# Altium integrated library Analog Devices Data Converters Analog-to-Digital Converters.IntLib: 2404 symbols (part 303 of 346)
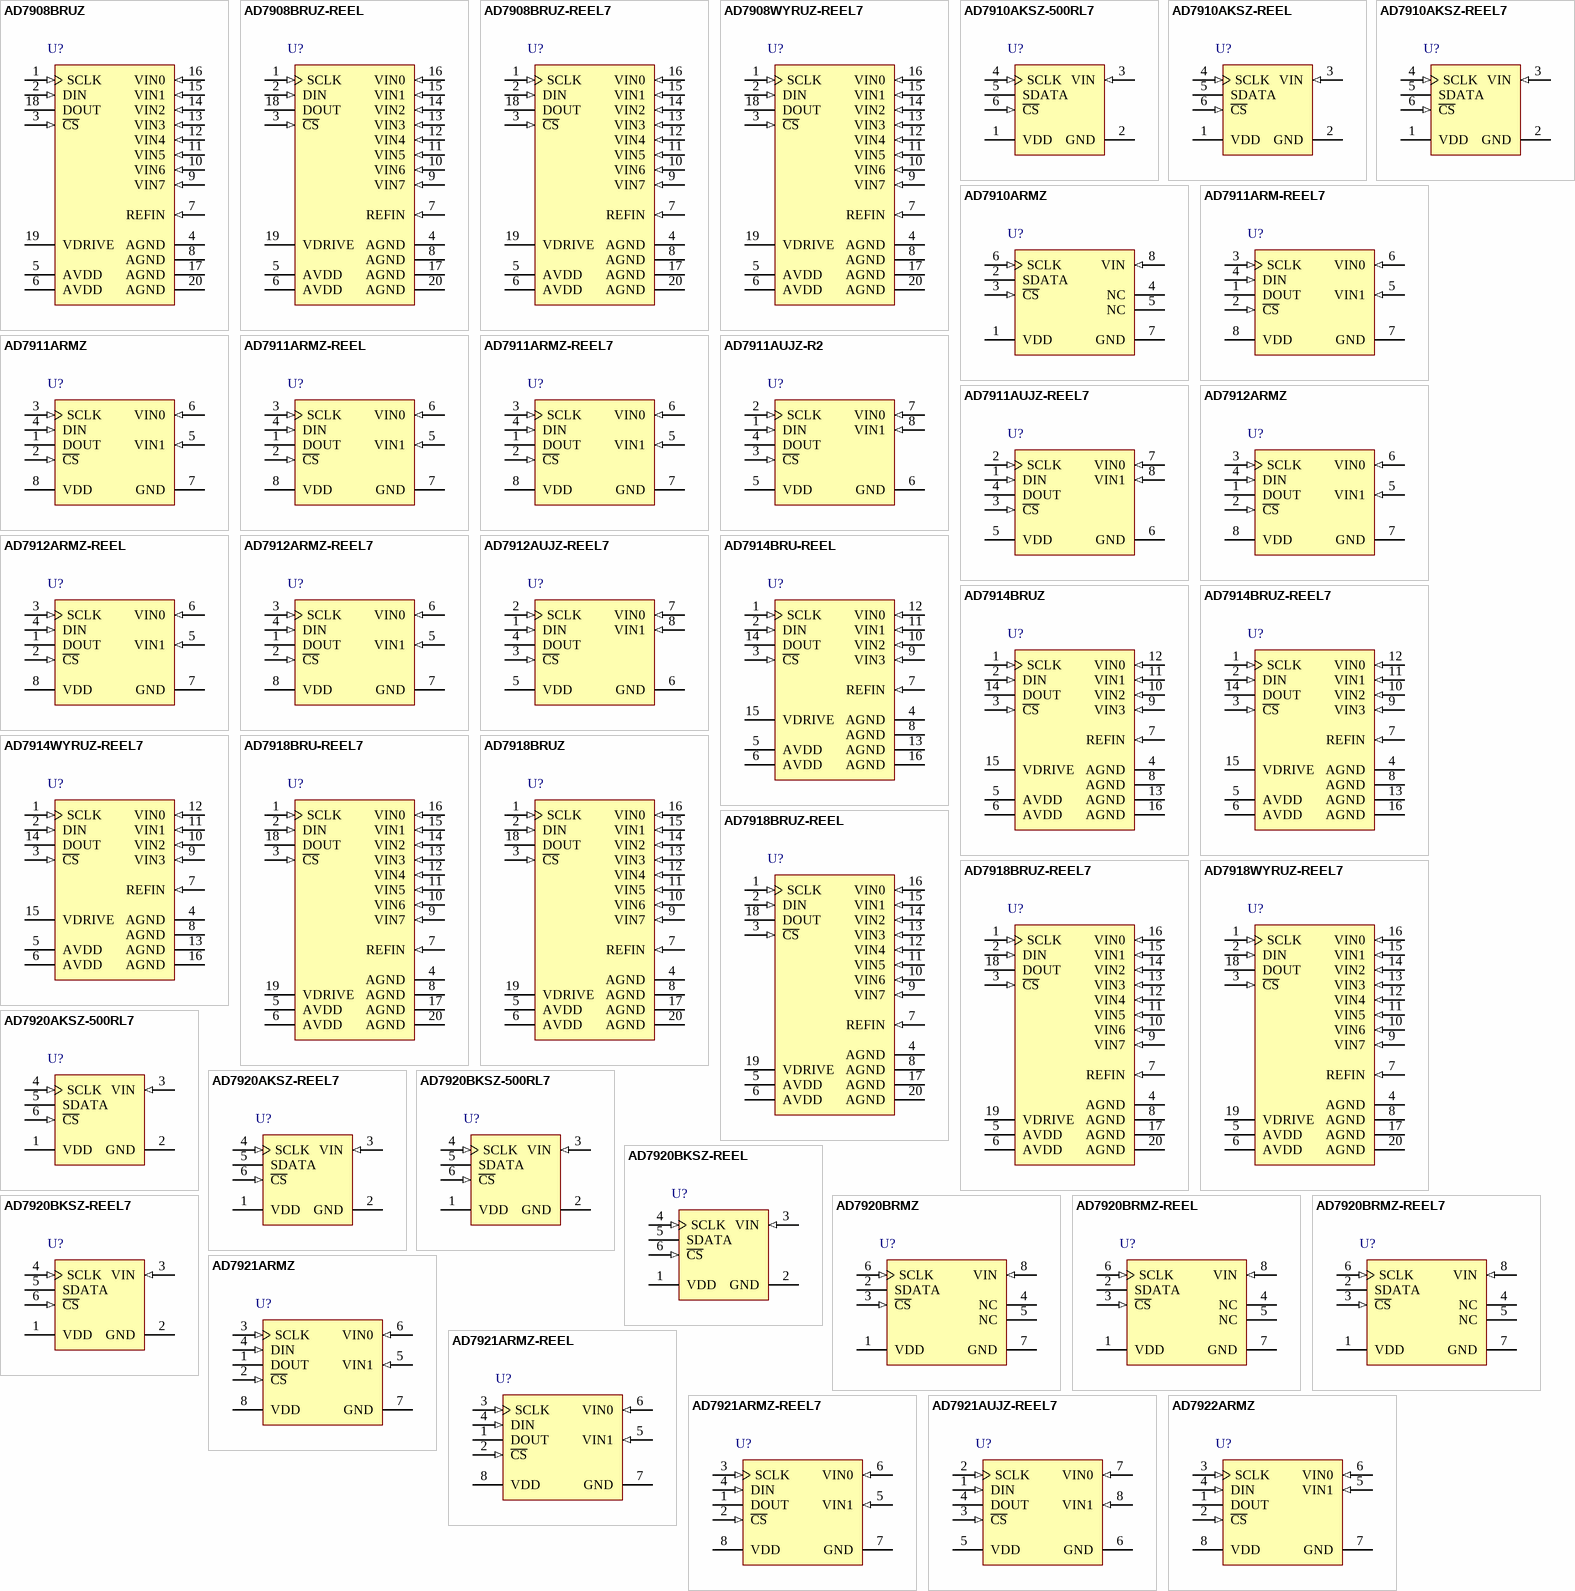
[diagram p317: symbols AD7908BRUZ to AD7922ARMZ]

## AD7911ARM-REEL7
designator U?
Dual 10-Bit Analog-to-Digital Converter with Serial, SPI Interface, 2.35 to 5.25 V, 250KSPS, -40 to +85 degC, RM-8, Reel; Generic Part Number: AD7911; Manufacturer: Analog Devices; PartNumber: AD7911ARM-REEL7; Resolution (Bits): 10; Channels: 2; Throughput Rate (SPS): 250K; Interface: Ser, SPI; DatasheetVersion: Rev.A; PackageVersion: Aug-2005; PackageReference: RM-8; PackageDescription: 8-Lead Mini Small Outline Package [MSOP]; Supplier 1: Mouser; Supplier Part Number 1: N/A; RoHS: N; Packing: Reel; Mounting Technology: Surface Mount; Code_JEDEC: MO-187-AA; ComponentLink1Description: Manufacturer URL; ComponentLink1URL: http://www.analog.com/en/index.html; ComponentLink2Description: Datasheet; ComponentLink2URL: http://www.analog.com/static/imported-files/data_sheets/AD7911_7921.pdf; ComponentLink3Description: Package Specification; ComponentLink3URL: http://www.analog.com/static/imported-files/packages/PKG_PDF/MSOP%28RM%29/RM_8.pdf; ComponentLink4Description: Product URL; ComponentLink4URL: http://www.analog.com/en/analog-to-digital-converters/ad-converters/ad7911/products/product.html
footprint RM-8_N (TSOP, 8-Leads, Body 3x3mm, Pitch 0.65mm, IPC Medium Density)
footprint RM-8_L (TSOP, 8-Leads, Body 3x3mm, Pitch 0.65mm, IPC High Density)
footprint RM-8_M (TSOP, 8-Leads, Body 3x3mm, Pitch 0.65mm, IPC Low Density)
pins: 1 DOUT (hiz) "Data Out. Logic output. The conversion result from the AD7911/AD7921 is provided on this output as a serial data stream. The bits are clocked out on the falling edge of the SCLK signal.For the AD7921, the data stream (See Datasheet)", 2 ~{CS} (in) "Chip Select. Active low logic input. This input provides the dual function of initiating conversions on the AD7911/AD7921 and framing the serial data transfer.", 3 SCLK (in) "Serial Clock. Logic input. SCLK provides the serial clock for accessing data from the part. This clock input is also used as the clock source for the AD7911/AD7921's conversion process.", 4 DIN (in) "Data In. Logic input. The channel to be converted is provided on this input and is clocked into an internal register on the falling edge of SCLK.", 5 VIN1 (in) "Analog Inputs. These two single-ended analog input channels are multiplexed into the on-chip track-and-hold amplifier. The analog input channel to be converted is selected by writing to the third MSB on the DIN pin. The (See Datasheet)", 6 VIN0 (in) "Analog Inputs. These two single-ended analog input channels are multiplexed into the on-chip track-and-hold amplifier. The analog input channel to be converted is selected by writing to the third MSB on the DIN pin. The (See Datasheet)", 7 GND (power) "Analog Ground. Ground reference point for all circuitry on the AD7911/AD7921. All analog input signals should be referred to this GND voltage.", 8 VDD (power) "Power Supply Input. The VDD range for the AD7911/AD7921 is from 2.35 V to 5.25 V."

## AD7911ARMZ
designator U?
Dual 10-Bit Analog-to-Digital Converter with Serial, SPI Interface, 2.35 V / 5.25V, 250KSPS, -40 to +85 degC, RM-8, Pb-Free, Tube; Generic Part Number: AD7911; Manufacturer: Analog Devices; PartNumber: AD7911ARMZ; Resolution (Bits): 10; Channels: 2; Throughput Rate (SPS): 250K; Interface: Ser, SPI; DatasheetVersion: Rev.A; PackageVersion: Aug-2005; PackageReference: RM-8; PackageDescription: 8-Lead Mini Small Outline Package [MSOP]; Supplier 1: Digi-Key; Supplier Part Number 1: AD7911ARMZ-ND; Supplier 2: Newark; Supplier Part Number 2: 59K5962; Supplier 3: Mouser; Supplier Part Number 3: 584-AD7911ARMZ; RoHS: Y; Packing: Tube; Mounting Technology: Surface Mount; Code_JEDEC: MO-187-AA; ComponentLink1Description: Manufacturer URL; ComponentLink1URL: http://www.analog.com/en/index.html; ComponentLink2Description: Datasheet; ComponentLink2URL: http://www.analog.com/static/imported-files/data_sheets/AD7911_7921.pdf; ComponentLink3Description: Package Specification; ComponentLink3URL: http://www.analog.com/static/imported-files/packages/PKG_PDF/MSOP%28RM%29/RM_8.pdf; ComponentLink4Description: Product URL; ComponentLink4URL: http://www.analog.com/en/analog-to-digital-converters/ad-converters/ad7911/products/product.html
footprint RM-8_N (TSOP, 8-Leads, Body 3x3mm, Pitch 0.65mm, IPC Medium Density)
footprint RM-8_L (TSOP, 8-Leads, Body 3x3mm, Pitch 0.65mm, IPC High Density)
footprint RM-8_M (TSOP, 8-Leads, Body 3x3mm, Pitch 0.65mm, IPC Low Density)
pins: 1 DOUT (hiz) "Data Out. Logic output. The conversion result from the AD7911/AD7921 is provided on this output as a serial data stream. The bits are clocked out on the falling edge of the SCLK signal.For the AD7921, the data stream (See Datasheet)", 2 ~{CS} (in) "Chip Select. Active low logic input. This input provides the dual function of initiating conversions on the AD7911/AD7921 and framing the serial data transfer.", 3 SCLK (in) "Serial Clock. Logic input. SCLK provides the serial clock for accessing data from the part. This clock input is also used as the clock source for the AD7911/AD7921's conversion process.", 4 DIN (in) "Data In. Logic input. The channel to be converted is provided on this input and is clocked into an internal register on the falling edge of SCLK.", 5 VIN1 (in) "Analog Inputs. These two single-ended analog input channels are multiplexed into the on-chip track-and-hold amplifier. The analog input channel to be converted is selected by writing to the third MSB on the DIN pin. The (See Datasheet)", 6 VIN0 (in) "Analog Inputs. These two single-ended analog input channels are multiplexed into the on-chip track-and-hold amplifier. The analog input channel to be converted is selected by writing to the third MSB on the DIN pin. The (See Datasheet)", 7 GND (power) "Analog Ground. Ground reference point for all circuitry on the AD7911/AD7921. All analog input signals should be referred to this GND voltage.", 8 VDD (power) "Power Supply Input. The VDD range for the AD7911/AD7921 is from 2.35 V to 5.25 V."

## AD7911ARMZ-REEL
designator U?
Dual 10-Bit Analog-to-Digital Converter with Serial, SPI Interface, 2.35 to 5.25 V, 250KSPS, -40 to +85 degC, RM-8, Pb-Free, Reel; Generic Part Number: AD7911; Manufacturer: Analog Devices; PartNumber: AD7911ARMZ-REEL; Resolution (Bits): 10; Channels: 2; Throughput Rate (SPS): 250K; Interface: Ser, SPI; DatasheetVersion: Rev.A; PackageVersion: Aug-2005; PackageReference: RM-8; PackageDescription: 8-Lead Mini Small Outline Package [MSOP]; Supplier 1: Digi-Key; Supplier Part Number 1: AD7911ARMZ-REEL-ND; Supplier 2: Mouser; Supplier Part Number 2: 584-AD7911ARMZ-R; RoHS: Y; Packing: Reel; Mounting Technology: Surface Mount; Code_JEDEC: MO-187-AA; ComponentLink1Description: Manufacturer URL; ComponentLink1URL: http://www.analog.com/en/index.html; ComponentLink2Description: Datasheet; ComponentLink2URL: http://www.analog.com/static/imported-files/data_sheets/AD7911_7921.pdf; ComponentLink3Description: Package Specification; ComponentLink3URL: http://www.analog.com/static/imported-files/packages/PKG_PDF/MSOP%28RM%29/RM_8.pdf; ComponentLink4Description: Product URL; ComponentLink4URL: http://www.analog.com/en/analog-to-digital-converters/ad-converters/ad7911/products/product.html
footprint RM-8_N (TSOP, 8-Leads, Body 3x3mm, Pitch 0.65mm, IPC Medium Density)
footprint RM-8_L (TSOP, 8-Leads, Body 3x3mm, Pitch 0.65mm, IPC High Density)
footprint RM-8_M (TSOP, 8-Leads, Body 3x3mm, Pitch 0.65mm, IPC Low Density)
pins: 1 DOUT (hiz) "Data Out. Logic output. The conversion result from the AD7911/AD7921 is provided on this output as a serial data stream. The bits are clocked out on the falling edge of the SCLK signal.For the AD7921, the data stream (See Datasheet)", 2 ~{CS} (in) "Chip Select. Active low logic input. This input provides the dual function of initiating conversions on the AD7911/AD7921 and framing the serial data transfer.", 3 SCLK (in) "Serial Clock. Logic input. SCLK provides the serial clock for accessing data from the part. This clock input is also used as the clock source for the AD7911/AD7921's conversion process.", 4 DIN (in) "Data In. Logic input. The channel to be converted is provided on this input and is clocked into an internal register on the falling edge of SCLK.", 5 VIN1 (in) "Analog Inputs. These two single-ended analog input channels are multiplexed into the on-chip track-and-hold amplifier. The analog input channel to be converted is selected by writing to the third MSB on the DIN pin. The (See Datasheet)", 6 VIN0 (in) "Analog Inputs. These two single-ended analog input channels are multiplexed into the on-chip track-and-hold amplifier. The analog input channel to be converted is selected by writing to the third MSB on the DIN pin. The (See Datasheet)", 7 GND (power) "Analog Ground. Ground reference point for all circuitry on the AD7911/AD7921. All analog input signals should be referred to this GND voltage.", 8 VDD (power) "Power Supply Input. The VDD range for the AD7911/AD7921 is from 2.35 V to 5.25 V."

## AD7911ARMZ-REEL7
designator U?
Dual 10-Bit Analog-to-Digital Converter with Serial, SPI Interface, 2.35 to 5.25 V, 250KSPS, -40 to +85 degC, RM-8, Pb-Free, Reel; Generic Part Number: AD7911; Manufacturer: Analog Devices; PartNumber: AD7911ARMZ-REEL7; Resolution (Bits): 10; Channels: 2; Throughput Rate (SPS): 250K; Interface: Ser, SPI; DatasheetVersion: Rev.A; PackageVersion: Aug-2005; PackageReference: RM-8; PackageDescription: 8-Lead Mini Small Outline Package [MSOP]; Supplier 1: Digi-Key; Supplier Part Number 1: AD7911ARMZREEL7TR-ND; Supplier 2: Mouser; Supplier Part Number 2: 584-AD7911ARMZ-R7; RoHS: Y; Packing: Reel; Mounting Technology: Surface Mount; Code_JEDEC: MO-187-AA; ComponentLink1Description: Manufacturer URL; ComponentLink1URL: http://www.analog.com/en/index.html; ComponentLink2Description: Datasheet; ComponentLink2URL: http://www.analog.com/static/imported-files/data_sheets/AD7911_7921.pdf; ComponentLink3Description: Package Specification; ComponentLink3URL: http://www.analog.com/static/imported-files/packages/PKG_PDF/MSOP%28RM%29/RM_8.pdf; ComponentLink4Description: Product URL; ComponentLink4URL: http://www.analog.com/en/analog-to-digital-converters/ad-converters/ad7911/products/product.html
footprint RM-8_N (TSOP, 8-Leads, Body 3x3mm, Pitch 0.65mm, IPC Medium Density)
footprint RM-8_L (TSOP, 8-Leads, Body 3x3mm, Pitch 0.65mm, IPC High Density)
footprint RM-8_M (TSOP, 8-Leads, Body 3x3mm, Pitch 0.65mm, IPC Low Density)
pins: 1 DOUT (hiz) "Data Out. Logic output. The conversion result from the AD7911/AD7921 is provided on this output as a serial data stream. The bits are clocked out on the falling edge of the SCLK signal.For the AD7921, the data stream (See Datasheet)", 2 ~{CS} (in) "Chip Select. Active low logic input. This input provides the dual function of initiating conversions on the AD7911/AD7921 and framing the serial data transfer.", 3 SCLK (in) "Serial Clock. Logic input. SCLK provides the serial clock for accessing data from the part. This clock input is also used as the clock source for the AD7911/AD7921's conversion process.", 4 DIN (in) "Data In. Logic input. The channel to be converted is provided on this input and is clocked into an internal register on the falling edge of SCLK.", 5 VIN1 (in) "Analog Inputs. These two single-ended analog input channels are multiplexed into the on-chip track-and-hold amplifier. The analog input channel to be converted is selected by writing to the third MSB on the DIN pin. The (See Datasheet)", 6 VIN0 (in) "Analog Inputs. These two single-ended analog input channels are multiplexed into the on-chip track-and-hold amplifier. The analog input channel to be converted is selected by writing to the third MSB on the DIN pin. The (See Datasheet)", 7 GND (power) "Analog Ground. Ground reference point for all circuitry on the AD7911/AD7921. All analog input signals should be referred to this GND voltage.", 8 VDD (power) "Power Supply Input. The VDD range for the AD7911/AD7921 is from 2.35 V to 5.25 V."

## AD7911AUJZ-R2
designator U?
Dual 10-Bit Analog-to-Digital Converter with Serial, SPI Interface, 2.35 V / 5.25V, 250KSPS, -40 to +85 degC, UJ-8, Pb-Free, Reel; Generic Part Number: AD7911; Manufacturer: Analog Devices; PartNumber: AD7911AUJZ-R2; Resolution (Bits): 10; Channels: 2; Throughput Rate (SPS): 250K; Interface: Ser, SPI; DatasheetVersion: Rev.A; PackageVersion: Dec-2004; PackageReference: UJ-8; PackageDescription: 8-Lead Thin Small Outline Transistor Package [TSOT]; Supplier 1: Digi-Key; Supplier Part Number 1: AD7911AUJZ-R2TR-ND; Supplier 2: Digi-Key; Supplier Part Number 2: AD7911AUJZ-R2CT-ND; Supplier 3: Digi-Key; Supplier Part Number 3: AD7911AUJZ-R2DKR-ND; Supplier 4: Mouser; Supplier Part Number 4: 584-AD7911AUJZ-R2; RoHS: Y; Packing: Reel; Mounting Technology: Surface Mount; Code_JEDEC: MO-193-BA*; ComponentLink1Description: Manufacturer URL; ComponentLink1URL: http://www.analog.com/en/index.html; ComponentLink2Description: Datasheet; ComponentLink2URL: http://www.analog.com/static/imported-files/data_sheets/AD7911_7921.pdf; ComponentLink3Description: Package Specification; ComponentLink3URL: http://www.analog.com/static/imported-files/packages/PKG_PDF/TSOT(UJ)/UJ_8.pdf; ComponentLink4Description: Product URL; ComponentLink4URL: http://www.analog.com/en/analog-to-digital-converters/ad-converters/ad7911/products/product.html
footprint UJ-8_N (SOP, 8-Leads, Body 2.9x1.6mm, Pitch 0.65mm, IPC Medium Density)
footprint UJ-8_L (SOP, 8-Leads, Body 2.9x1.6mm, Pitch 0.65mm, IPC High Density)
footprint UJ-8_M (SOP, 8-Leads, Body 2.9x1.6mm, Pitch 0.65mm, IPC Low Density)
pins: 1 DIN (in) "Data In. Logic input. The channel to be converted is provided on this input and is clocked into an internal register on the falling edge of SCLK.", 2 SCLK (in) "Serial Clock. Logic input. SCLK provides the serial clock for accessing data from the part. This clock input is also used as the clock source for the AD7911/AD7921's conversion process.", 3 ~{CS} (in) "Chip Select. Active low logic input. This input provides the dual function of initiating conversions on the AD7911/AD7921 and framing the serial data transfer.", 4 DOUT (hiz) "Data Out. Logic output. The conversion result from the AD7911/AD7921 is provided on this output as a serial data stream. The bits are clocked out on the falling edge of the SCLK signal.For the AD7921, the data stream (See Datasheet)", 5 VDD (power) "Power Supply Input. The VDD range for the AD7911/AD7921 is from 2.35 V to 5.25 V.", 6 GND (power) "Analog Ground. Ground reference point for all circuitry on the AD7911/AD7921. All analog input signals should be referred to this GND voltage.", 7 VIN0 (in) "Analog Inputs. These two single-ended analog input channels are multiplexed into the on-chip track-and-hold amplifier. The analog input channel to be converted is selected by writing to the third MSB on the DIN pin. The (See Datasheet)", 8 VIN1 (in) "Analog Inputs. These two single-ended analog input channels are multiplexed into the on-chip track-and-hold amplifier. The analog input channel to be converted is selected by writing to the third MSB on the DIN pin. The (See Datasheet)"

## AD7911AUJZ-REEL7
designator U?
Dual 10-Bit Analog-to-Digital Converter with Serial, SPI Interface, 2.35 to 5.25 V, 250KSPS, -40 to +85 degC, UJ-8, Pb-Free, Reel; Generic Part Number: AD7911; Manufacturer: Analog Devices; PartNumber: AD7911AUJZ-REEL7; Resolution (Bits): 10; Channels: 2; Throughput Rate (SPS): 250K; Interface: Ser, SPI; DatasheetVersion: Rev.A; PackageVersion: Dec-2004; PackageReference: UJ-8; PackageDescription: 8-Lead Thin Small Outline Transistor Package [TSOT]; Supplier 1: Digi-Key; Supplier Part Number 1: AD7911AUJZ-REEL7TR-ND; Supplier 2: Digi-Key; Supplier Part Number 2: AD7911AUJZ-REEL7CT-ND; Supplier 3: Digi-Key; Supplier Part Number 3: AD7911AUJZ-REEL7DKR-ND; Supplier 4: Mouser; Supplier Part Number 4: 584-AD7911AUJZ-R7; RoHS: Y; Packing: Reel; Mounting Technology: Surface Mount; Code_JEDEC: MO-193-BA*; ComponentLink1Description: Manufacturer URL; ComponentLink1URL: http://www.analog.com/en/index.html; ComponentLink2Description: Datasheet; ComponentLink2URL: http://www.analog.com/static/imported-files/data_sheets/AD7911_7921.pdf; ComponentLink3Description: Package Specification; ComponentLink3URL: http://www.analog.com/static/imported-files/packages/PKG_PDF/TSOT(UJ)/UJ_8.pdf; ComponentLink4Description: Product URL; ComponentLink4URL: http://www.analog.com/en/analog-to-digital-converters/ad-converters/ad7911/products/product.html
footprint UJ-8_N (SOP, 8-Leads, Body 2.9x1.6mm, Pitch 0.65mm, IPC Medium Density)
footprint UJ-8_L (SOP, 8-Leads, Body 2.9x1.6mm, Pitch 0.65mm, IPC High Density)
footprint UJ-8_M (SOP, 8-Leads, Body 2.9x1.6mm, Pitch 0.65mm, IPC Low Density)
pins: 1 DIN (in) "Data In. Logic input. The channel to be converted is provided on this input and is clocked into an internal register on the falling edge of SCLK.", 2 SCLK (in) "Serial Clock. Logic input. SCLK provides the serial clock for accessing data from the part. This clock input is also used as the clock source for the AD7911/AD7921's conversion process.", 3 ~{CS} (in) "Chip Select. Active low logic input. This input provides the dual function of initiating conversions on the AD7911/AD7921 and framing the serial data transfer.", 4 DOUT (hiz) "Data Out. Logic output. The conversion result from the AD7911/AD7921 is provided on this output as a serial data stream. The bits are clocked out on the falling edge of the SCLK signal.For the AD7921, the data stream (See Datasheet)", 5 VDD (power) "Power Supply Input. The VDD range for the AD7911/AD7921 is from 2.35 V to 5.25 V.", 6 GND (power) "Analog Ground. Ground reference point for all circuitry on the AD7911/AD7921. All analog input signals should be referred to this GND voltage.", 7 VIN0 (in) "Analog Inputs. These two single-ended analog input channels are multiplexed into the on-chip track-and-hold amplifier. The analog input channel to be converted is selected by writing to the third MSB on the DIN pin. The (See Datasheet)", 8 VIN1 (in) "Analog Inputs. These two single-ended analog input channels are multiplexed into the on-chip track-and-hold amplifier. The analog input channel to be converted is selected by writing to the third MSB on the DIN pin. The (See Datasheet)"

## AD7912ARMZ
designator U?
Dual 10-Bit Analog-to-Digital Converter with Serial, SPI Interface, 2.35 to 5.25 V, 1MSPS, -40 to +85 degC, RM-8, Pb-Free, Tube; Generic Part Number: AD7912; Manufacturer: Analog Devices; PartNumber: AD7912ARMZ; Resolution (Bits): 10; Channels: 2; Throughput Rate (SPS): 1M; Interface: Ser, SPI; DatasheetVersion: Rev.0; PackageVersion: Aug-2005; PackageReference: RM-8; PackageDescription: 8-Lead Mini Small Outline Package [MSOP]; Supplier 1: Digi-Key; Supplier Part Number 1: AD7912ARMZ-ND; Supplier 2: Farnell; Supplier Part Number 2: 1078325; Supplier 3: Newark; Supplier Part Number 3: 15P0898; Supplier 4: Newark; Supplier Part Number 4: 59K5972; Supplier 5: Mouser; Supplier Part Number 5: 584-AD7912ARMZ; RoHS: Y; Packing: Tube; Mounting Technology: Surface Mount; Code_JEDEC: MO-187-AA; ComponentLink1Description: Manufacturer URL; ComponentLink1URL: http://www.analog.com/en/index.html; ComponentLink2Description: Datasheet; ComponentLink2URL: http://www.analog.com/static/imported-files/data_sheets/AD7912_7922.pdf; ComponentLink3Description: Package Specification; ComponentLink3URL: http://www.analog.com/static/imported-files/packages/PKG_PDF/MSOP%28RM%29/RM_8.pdf; ComponentLink4Description: Product URL; ComponentLink4URL: http://www.analog.com/en/analog-to-digital-converters/ad-converters/ad7912/products/product.html
footprint RM-8_N (TSOP, 8-Leads, Body 3x3mm, Pitch 0.65mm, IPC Medium Density)
footprint RM-8_L (TSOP, 8-Leads, Body 3x3mm, Pitch 0.65mm, IPC High Density)
footprint RM-8_M (TSOP, 8-Leads, Body 3x3mm, Pitch 0.65mm, IPC Low Density)
pins: 1 DOUT (hiz) "Data Out. Logic output. The conversion result from the AD7912/AD7922 is provided on this output as a serial data stream. The bits are clocked out on the falling edge of the SCLK signal.For the AD7912, the data stream (See Datasheet)", 2 ~{CS} (in) "Chip Select. Active low logic input. This input provides the dual function of initiating conversions on the AD7912/AD7922 and framing the serial data transfer.", 3 SCLK (in) "Serial Clock. Logic input. SCLK provides the serial clock for accessing data from the part. This clock input is also used as the clock source for the AD7912/AD7922 is conversion process.", 4 DIN (in) "Data In. Logic input. The channel to be converted is provided on this input and is clocked into an internal register on the falling edge of SCLK.", 5 VIN1 (in) "Analog Inputs. These two single-ended analog input channels are multiplexed into the on-chip track-and-hold amplifier. The analog input channel to be converted is selected by writing to the third MSB on the DIN pin. The (See Datasheet)", 6 VIN0 (in) "Analog Inputs. These two single-ended analog input channels are multiplexed into the on-chip track-and-hold amplifier. The analog input channel to be converted is selected by writing to the third MSB on the DIN pin. The (See Datasheet)", 7 GND (power) "Analog Ground. Ground reference point for all circuitry on the AD7912/AD7922. All analog input signals should be referred to this GND voltage.", 8 VDD (power) "Power Supply Input. The VDD range for the AD7912/AD7922 is from 2.35 V to 5.25 V."

## AD7912ARMZ-REEL
designator U?
Dual 10-Bit Analog-to-Digital Converter with Serial, SPI Interface, 2.35 to 5.25 V, 1MSPS, -40 to +85 degC, RM-8, Pb-Free, Reel; Generic Part Number: AD7912; Manufacturer: Analog Devices; PartNumber: AD7912ARMZ-REEL; Resolution (Bits): 10; Channels: 2; Throughput Rate (SPS): 1M; Interface: Ser, SPI; DatasheetVersion: Rev.0; PackageVersion: Aug-2005; PackageReference: RM-8; PackageDescription: 8-Lead Mini Small Outline Package [MSOP]; Supplier 1: Digi-Key; Supplier Part Number 1: AD7912ARMZ-REEL-ND; Supplier 2: Mouser; Supplier Part Number 2: 584-AD7912ARMZ-R; RoHS: Y; Packing: Reel; Mounting Technology: Surface Mount; Code_JEDEC: MO-187-AA; ComponentLink1Description: Manufacturer URL; ComponentLink1URL: http://www.analog.com/en/index.html; ComponentLink2Description: Datasheet; ComponentLink2URL: http://www.analog.com/static/imported-files/data_sheets/AD7912_7922.pdf; ComponentLink3Description: Package Specification; ComponentLink3URL: http://www.analog.com/static/imported-files/packages/PKG_PDF/MSOP%28RM%29/RM_8.pdf; ComponentLink4Description: Product URL; ComponentLink4URL: http://www.analog.com/en/analog-to-digital-converters/ad-converters/ad7912/products/product.html
footprint RM-8_N (TSOP, 8-Leads, Body 3x3mm, Pitch 0.65mm, IPC Medium Density)
footprint RM-8_L (TSOP, 8-Leads, Body 3x3mm, Pitch 0.65mm, IPC High Density)
footprint RM-8_M (TSOP, 8-Leads, Body 3x3mm, Pitch 0.65mm, IPC Low Density)
pins: 1 DOUT (hiz) "Data Out. Logic output. The conversion result from the AD7912/AD7922 is provided on this output as a serial data stream. The bits are clocked out on the falling edge of the SCLK signal.For the AD7912, the data stream (See Datasheet)", 2 ~{CS} (in) "Chip Select. Active low logic input. This input provides the dual function of initiating conversions on the AD7912/AD7922 and framing the serial data transfer.", 3 SCLK (in) "Serial Clock. Logic input. SCLK provides the serial clock for accessing data from the part. This clock input is also used as the clock source for the AD7912/AD7922 is conversion process.", 4 DIN (in) "Data In. Logic input. The channel to be converted is provided on this input and is clocked into an internal register on the falling edge of SCLK.", 5 VIN1 (in) "Analog Inputs. These two single-ended analog input channels are multiplexed into the on-chip track-and-hold amplifier. The analog input channel to be converted is selected by writing to the third MSB on the DIN pin. The (See Datasheet)", 6 VIN0 (in) "Analog Inputs. These two single-ended analog input channels are multiplexed into the on-chip track-and-hold amplifier. The analog input channel to be converted is selected by writing to the third MSB on the DIN pin. The (See Datasheet)", 7 GND (power) "Analog Ground. Ground reference point for all circuitry on the AD7912/AD7922. All analog input signals should be referred to this GND voltage.", 8 VDD (power) "Power Supply Input. The VDD range for the AD7912/AD7922 is from 2.35 V to 5.25 V."

## AD7912ARMZ-REEL7
designator U?
Dual 10-Bit Analog-to-Digital Converter with Serial, SPI Interface, 2.35 to 5.25 V, 1MSPS, -40 to +85 degC, RM-8, Pb-Free, Reel; Generic Part Number: AD7912; Manufacturer: Analog Devices; PartNumber: AD7912ARMZ-REEL7; Resolution (Bits): 10; Channels: 2; Throughput Rate (SPS): 1M; Interface: Ser, SPI; DatasheetVersion: Rev.0; PackageVersion: Aug-2005; PackageReference: RM-8; PackageDescription: 8-Lead Mini Small Outline Package [MSOP]; Supplier 1: Digi-Key; Supplier Part Number 1: AD7912ARMZ-REEL7-ND; Supplier 2: Mouser; Supplier Part Number 2: 584-AD7912ARMZ-R7; RoHS: Y; Packing: Reel; Mounting Technology: Surface Mount; Code_JEDEC: MO-187-AA; ComponentLink1Description: Manufacturer URL; ComponentLink1URL: http://www.analog.com/en/index.html; ComponentLink2Description: Datasheet; ComponentLink2URL: http://www.analog.com/static/imported-files/data_sheets/AD7912_7922.pdf; ComponentLink3Description: Package Specification; ComponentLink3URL: http://www.analog.com/static/imported-files/packages/PKG_PDF/MSOP%28RM%29/RM_8.pdf; ComponentLink4Description: Product URL; ComponentLink4URL: http://www.analog.com/en/analog-to-digital-converters/ad-converters/ad7912/products/product.html
footprint RM-8_N (TSOP, 8-Leads, Body 3x3mm, Pitch 0.65mm, IPC Medium Density)
footprint RM-8_L (TSOP, 8-Leads, Body 3x3mm, Pitch 0.65mm, IPC High Density)
footprint RM-8_M (TSOP, 8-Leads, Body 3x3mm, Pitch 0.65mm, IPC Low Density)
pins: 1 DOUT (hiz) "Data Out. Logic output. The conversion result from the AD7912/AD7922 is provided on this output as a serial data stream. The bits are clocked out on the falling edge of the SCLK signal.For the AD7912, the data stream (See Datasheet)", 2 ~{CS} (in) "Chip Select. Active low logic input. This input provides the dual function of initiating conversions on the AD7912/AD7922 and framing the serial data transfer.", 3 SCLK (in) "Serial Clock. Logic input. SCLK provides the serial clock for accessing data from the part. This clock input is also used as the clock source for the AD7912/AD7922 is conversion process.", 4 DIN (in) "Data In. Logic input. The channel to be converted is provided on this input and is clocked into an internal register on the falling edge of SCLK.", 5 VIN1 (in) "Analog Inputs. These two single-ended analog input channels are multiplexed into the on-chip track-and-hold amplifier. The analog input channel to be converted is selected by writing to the third MSB on the DIN pin. The (See Datasheet)", 6 VIN0 (in) "Analog Inputs. These two single-ended analog input channels are multiplexed into the on-chip track-and-hold amplifier. The analog input channel to be converted is selected by writing to the third MSB on the DIN pin. The (See Datasheet)", 7 GND (power) "Analog Ground. Ground reference point for all circuitry on the AD7912/AD7922. All analog input signals should be referred to this GND voltage.", 8 VDD (power) "Power Supply Input. The VDD range for the AD7912/AD7922 is from 2.35 V to 5.25 V."

## AD7912AUJZ-REEL7
designator U?
Dual 10-Bit Analog-to-Digital Converter with Serial, SPI Interface, 2.35 to 5.25 V, 1MSPS, -40 to +85 degC, UJ-8, Pb-Free, Reel; Generic Part Number: AD7912; Manufacturer: Analog Devices; PartNumber: AD7912AUJZ-REEL7; Resolution (Bits): 10; Channels: 2; Throughput Rate (SPS): 1M; Interface: Ser, SPI; DatasheetVersion: Rev.0; PackageVersion: Dec-2004; PackageReference: UJ-8; PackageDescription: 8-Lead Thin Small Outline Transistor Package [TSOT]; Supplier 1: Digi-Key; Supplier Part Number 1: AD7912AUJZ-REEL7TR-ND; Supplier 2: Digi-Key; Supplier Part Number 2: AD7912AUJZ-REEL7CT-ND; Supplier 3: Digi-Key; Supplier Part Number 3: AD7912AUJZ-REEL7DKR-ND; Supplier 4: Newark; Supplier Part Number 4: 59K5979; Supplier 5: Mouser; Supplier Part Number 5: 584-AD7912AUJZ-R7; RoHS: Y; Packing: Reel; Mounting Technology: Surface Mount; Code_JEDEC: MO-193-BA*; ComponentLink1Description: Manufacturer URL; ComponentLink1URL: http://www.analog.com/en/index.html; ComponentLink2Description: Datasheet; ComponentLink2URL: http://www.analog.com/static/imported-files/data_sheets/AD7912_7922.pdf; ComponentLink3Description: Package Specification; ComponentLink3URL: http://www.analog.com/static/imported-files/packages/PKG_PDF/TSOT(UJ)/UJ_8.pdf; ComponentLink4Description: Product URL; ComponentLink4URL: http://www.analog.com/en/analog-to-digital-converters/ad-converters/ad7912/products/product.html
footprint UJ-8_N (SOP, 8-Leads, Body 2.9x1.6mm, Pitch 0.65mm, IPC Medium Density)
footprint UJ-8_L (SOP, 8-Leads, Body 2.9x1.6mm, Pitch 0.65mm, IPC High Density)
footprint UJ-8_M (SOP, 8-Leads, Body 2.9x1.6mm, Pitch 0.65mm, IPC Low Density)
pins: 1 DIN (in) "Data In. Logic input. The channel to be converted is provided on this input and is clocked into an internal register on the falling edge of SCLK.", 2 SCLK (in) "Serial Clock. Logic input. SCLK provides the serial clock for accessing data from the part. This clock input is also used as the clock source for the AD7912/AD7922's conversion process.", 3 ~{CS} (in) "Chip Select. Active low logic input. This input provides the dual function of initiating conversions on the AD7912/AD7922 and framing the serial data transfer.", 4 DOUT (hiz) "Data Out. Logic output. The conversion result from the AD7912/AD7922 is provided on this output as a serial data stream. The bits are clocked out on the falling edge of the SCLK signal.For the AD7912, the data stream (See Datasheet)", 5 VDD (power) "Power Supply Input. The VDD range for the AD7912/AD7922 is from 2.35 V to 5.25 V.", 6 GND (power) "Analog Ground. Ground reference point for all circuitry on the AD7912/AD7922. All analog input signals should be referred to this GND voltage.", 7 VIN0 (in) "Analog Inputs. These two single-ended analog input channels are multiplexed into the on-chip track-and-hold amplifier. The analog input channel to be converted is selected by writing to the third MSB on the DIN pin. The (See Datasheet)", 8 VIN1 (in) "Analog Inputs. These two single-ended analog input channels are multiplexed into the on-chip track-and-hold amplifier. The analog input channel to be converted is selected by writing to the third MSB on the DIN pin. The (See Datasheet)"

## AD7914BRU-REEL
designator U?
Quad 10-Bit Analog-to-Digital Converter with Serial, SPI Interface and Sequencer, 1MSPS, -40 to +85 degC, RU-16, Reel; Generic Part Number: AD7914; Manufacturer: Analog Devices; PartNumber: AD7914BRU-REEL; Resolution (Bits): 10; Channels: 4; Throughput Rate (SPS): 1M; Interface: Ser, SPI; Automotive Qualified: Yes; DatasheetVersion: Rev.B; PackageVersion: Nov-2002; PackageReference: RU-16; PackageDescription: 16-Lead Thin Shrink Small Outline Package [TSSOP]; Supplier 1: Mouser; Supplier Part Number 1: N/A; RoHS: N; Packing: Reel; Mounting Technology: Surface Mount; Code_JEDEC: MO-153-AB; ComponentLink1Description: Manufacturer URL; ComponentLink1URL: http://www.analog.com/en/index.html; ComponentLink2Description: Datasheet; ComponentLink2URL: http://www.analog.com/static/imported-files/data_sheets/AD7904_7914_7924.pdf; ComponentLink3Description: Package Specification; ComponentLink3URL: http://www.analog.com/static/imported-files/packages/36244347913743854010197452789RU16.pdf; ComponentLink4Description: Product URL; ComponentLink4URL: http://www.analog.com/en/analog-to-digital-converters/ad-converters/ad7914/products/product.html
footprint RU-16_N (TSOP, 16-Leads, Body 5x4.4mm, Pitch 0.65mm, IPC Medium Density)
footprint RU-16_L (TSOP, 16-Leads, Body 5x4.4mm, Pitch 0.65mm, IPC High Density)
footprint RU-16_M (TSOP, 16-Leads, Body 5x4.4mm, Pitch 0.65mm, IPC Low Density)
pins: 1 SCLK (in) "Serial Clock, Logic Input. SCLK provides the serial clock for accessing data from the part. This clock input is also used as the clock source for the AD7904/AD7914/AD7924 conversion process.", 2 DIN (in) "Data In, Logic Input. Data to be written to the control register of the AD7904/AD7914/AD7924 is provided on this input and is clocked into the register on the falling edge of SCLK (see the Control Register section).", 3 ~{CS} (in) "Chip Select. Active low logic input. This input provides the dual function of initiating conversions on the AD7904/AD7914/AD7924 and frames the serial data transfer.", 4 AGND (power) "Analog Ground. Ground reference point for all analog circuitry on the AD7904/AD7914/AD7924. All analog input signals and any external reference signal should be referred to this AGND voltage. All AGND pins should be (See Datasheet)", 5 AVDD (power) "Analog Power Supply Input. The AVDD range for the AD7904/AD7914/AD7924 is from 2.7 V to 5.25 V. For the 0 V to 2 x REFIN range, AVDD should be from 4.75 V to 5.25 V.", 6 AVDD (power) "Analog Power Supply Input. The AVDD range for the AD7904/AD7914/AD7924 is from 2.7 V to 5.25 V. For the 0 V to 2 x REFIN range, AVDD should be from 4.75 V to 5.25 V.", 7 REFIN (in) "Reference Input for the AD7904/AD7914/AD7924. An external reference must be applied to this input. The voltage range for the external reference is 2.5 V +/- 1% for specified performance.", 8 AGND (power) "Analog Ground. Ground reference point for all analog circuitry on the AD7904/AD7914/AD7924. All analog input signals and any external reference signal should be referred to this AGND voltage. All AGND pins should be (See Datasheet)", 9 VIN3 (in) "Analog Input 0 through Analog Input 3. The four single-ended analog input channels are multiplexed into the on-chip track-and-hold. The analog input channel to be converted is selected using the address bits ADD1 and ADD0 of (See Datasheet)", 10 VIN2 (in) "Analog Input 0 through Analog Input 3. The four single-ended analog input channels are multiplexed into the on-chip track-and-hold. The analog input channel to be converted is selected using the address bits ADD1 and ADD0 of (See Datasheet)", 11 VIN1 (in) "Analog Input 0 through Analog Input 3. The four single-ended analog input channels are multiplexed into the on-chip track-and-hold. The analog input channel to be converted is selected using the address bits ADD1 and ADD0 of (See Datasheet)", 12 VIN0 (in) "Analog Input 0 through Analog Input 3. The four single-ended analog input channels are multiplexed into the on-chip track-and-hold. The analog input channel to be converted is selected using the address bits ADD1 and ADD0 of (See Datasheet)", 13 AGND (power) "Analog Ground. Ground reference point for all analog circuitry on the AD7904/AD7914/AD7924. All analog input signals and any external reference signal should be referred to this AGND voltage. All AGND pins should be (See Datasheet)", 14 DOUT (hiz) "Data Out, Logic Output. The conversion result from the AD7904/AD7914/AD7924 is provided on this output as a serial data stream. The bits are clocked out on the falling edge of the SCLK input. The data stream from the AD7904 (See Datasheet)", 15 VDRIVE (power) "Logic Power Supply Input. The voltage supplied at this pin determines the voltage at which the serial interface of the AD7904/AD7914/AD7924 operates.", 16 AGND (power) "Analog Ground. Ground reference point for all analog circuitry on the AD7904/AD7914/AD7924. All analog input signals and any external reference signal should be referred to this AGND voltage. All AGND pins should be (See Datasheet)"

## AD7914BRUZ
designator U?
Quad 10-Bit Analog-to-Digital Converter with Serial, SPI Interface and Sequencer, 1MSPS, -40 to +85 degC, RU-16, Pb-Free, Tube; Generic Part Number: AD7914; Manufacturer: Analog Devices; PartNumber: AD7914BRUZ; Resolution (Bits): 10; Channels: 4; Throughput Rate (SPS): 1M; Interface: Ser, SPI; Automotive Qualified: Yes; DatasheetVersion: Rev.B; PackageVersion: Nov-2002; PackageReference: RU-16; PackageDescription: 16-Lead Thin Shrink Small Outline Package [TSSOP]; Supplier 1: Digi-Key; Supplier Part Number 1: AD7914BRUZ-ND; Supplier 2: Newark; Supplier Part Number 2: 59K5980; Supplier 3: Mouser; Supplier Part Number 3: 584-AD7914BRUZ; RoHS: Y; Packing: Tube; Mounting Technology: Surface Mount; Code_JEDEC: MO-153-AB; ComponentLink1Description: Manufacturer URL; ComponentLink1URL: http://www.analog.com/en/index.html; ComponentLink2Description: Datasheet; ComponentLink2URL: http://www.analog.com/static/imported-files/data_sheets/AD7904_7914_7924.pdf; ComponentLink3Description: Package Specification; ComponentLink3URL: http://www.analog.com/static/imported-files/packages/36244347913743854010197452789RU16.pdf; ComponentLink4Description: Product URL; ComponentLink4URL: http://www.analog.com/en/analog-to-digital-converters/ad-converters/ad7914/products/product.html
footprint RU-16_N (TSOP, 16-Leads, Body 5x4.4mm, Pitch 0.65mm, IPC Medium Density)
footprint RU-16_L (TSOP, 16-Leads, Body 5x4.4mm, Pitch 0.65mm, IPC High Density)
footprint RU-16_M (TSOP, 16-Leads, Body 5x4.4mm, Pitch 0.65mm, IPC Low Density)
pins: 1 SCLK (in) "Serial Clock, Logic Input. SCLK provides the serial clock for accessing data from the part. This clock input is also used as the clock source for the AD7904/AD7914/AD7924 conversion process.", 2 DIN (in) "Data In, Logic Input. Data to be written to the control register of the AD7904/AD7914/AD7924 is provided on this input and is clocked into the register on the falling edge of SCLK (see the Control Register section).", 3 ~{CS} (in) "Chip Select. Active low logic input. This input provides the dual function of initiating conversions on the AD7904/AD7914/AD7924 and frames the serial data transfer.", 4 AGND (power) "Analog Ground. Ground reference point for all analog circuitry on the AD7904/AD7914/AD7924. All analog input signals and any external reference signal should be referred to this AGND voltage. All AGND pins should be (See Datasheet)", 5 AVDD (power) "Analog Power Supply Input. The AVDD range for the AD7904/AD7914/AD7924 is from 2.7 V to 5.25 V. For the 0 V to 2 x REFIN range, AVDD should be from 4.75 V to 5.25 V.", 6 AVDD (power) "Analog Power Supply Input. The AVDD range for the AD7904/AD7914/AD7924 is from 2.7 V to 5.25 V. For the 0 V to 2 x REFIN range, AVDD should be from 4.75 V to 5.25 V.", 7 REFIN (in) "Reference Input for the AD7904/AD7914/AD7924. An external reference must be applied to this input. The voltage range for the external reference is 2.5 V +/- 1% for specified performance.", 8 AGND (power) "Analog Ground. Ground reference point for all analog circuitry on the AD7904/AD7914/AD7924. All analog input signals and any external reference signal should be referred to this AGND voltage. All AGND pins should be (See Datasheet)", 9 VIN3 (in) "Analog Input 0 through Analog Input 3. The four single-ended analog input channels are multiplexed into the on-chip track-and-hold. The analog input channel to be converted is selected using the address bits ADD1 and ADD0 of (See Datasheet)", 10 VIN2 (in) "Analog Input 0 through Analog Input 3. The four single-ended analog input channels are multiplexed into the on-chip track-and-hold. The analog input channel to be converted is selected using the address bits ADD1 and ADD0 of (See Datasheet)", 11 VIN1 (in) "Analog Input 0 through Analog Input 3. The four single-ended analog input channels are multiplexed into the on-chip track-and-hold. The analog input channel to be converted is selected using the address bits ADD1 and ADD0 of (See Datasheet)", 12 VIN0 (in) "Analog Input 0 through Analog Input 3. The four single-ended analog input channels are multiplexed into the on-chip track-and-hold. The analog input channel to be converted is selected using the address bits ADD1 and ADD0 of (See Datasheet)", 13 AGND (power) "Analog Ground. Ground reference point for all analog circuitry on the AD7904/AD7914/AD7924. All analog input signals and any external reference signal should be referred to this AGND voltage. All AGND pins should be (See Datasheet)", 14 DOUT (hiz) "Data Out, Logic Output. The conversion result from the AD7904/AD7914/AD7924 is provided on this output as a serial data stream. The bits are clocked out on the falling edge of the SCLK input. The data stream from the AD7904 (See Datasheet)", 15 VDRIVE (power) "Logic Power Supply Input. The voltage supplied at this pin determines the voltage at which the serial interface of the AD7904/AD7914/AD7924 operates.", 16 AGND (power) "Analog Ground. Ground reference point for all analog circuitry on the AD7904/AD7914/AD7924. All analog input signals and any external reference signal should be referred to this AGND voltage. All AGND pins should be (See Datasheet)"

## AD7914BRUZ-REEL7
designator U?
Quad 10-Bit Analog-to-Digital Converter with Serial, SPI Interface and Sequencer, 1MSPS, -40 to +85 degC, RU-16, Pb-Free, Reel; Generic Part Number: AD7914; Manufacturer: Analog Devices; PartNumber: AD7914BRUZ-REEL7; Resolution (Bits): 10; Channels: 4; Throughput Rate (SPS): 1M; Interface: Ser, SPI; Automotive Qualified: Yes; DatasheetVersion: Rev.B; PackageVersion: Nov-2002; PackageReference: RU-16; PackageDescription: 16-Lead Thin Shrink Small Outline Package [TSSOP]; Supplier 1: Digi-Key; Supplier Part Number 1: AD7914BRUZ-REEL7TR-ND; Supplier 2: Digi-Key; Supplier Part Number 2: AD7914BRUZ-REEL7CT-ND; Supplier 3: Digi-Key; Supplier Part Number 3: AD7914BRUZ-REEL7DKR-ND; Supplier 4: Mouser; Supplier Part Number 4: 584-AD7914BRUZ-R7; RoHS: Y; Packing: Reel; Mounting Technology: Surface Mount; Code_JEDEC: MO-153-AB; ComponentLink1Description: Manufacturer URL; ComponentLink1URL: http://www.analog.com/en/index.html; ComponentLink2Description: Datasheet; ComponentLink2URL: http://www.analog.com/static/imported-files/data_sheets/AD7904_7914_7924.pdf; ComponentLink3Description: Package Specification; ComponentLink3URL: http://www.analog.com/static/imported-files/packages/36244347913743854010197452789RU16.pdf; ComponentLink4Description: Product URL; ComponentLink4URL: http://www.analog.com/en/analog-to-digital-converters/ad-converters/ad7914/products/product.html
footprint RU-16_N (TSOP, 16-Leads, Body 5x4.4mm, Pitch 0.65mm, IPC Medium Density)
footprint RU-16_L (TSOP, 16-Leads, Body 5x4.4mm, Pitch 0.65mm, IPC High Density)
footprint RU-16_M (TSOP, 16-Leads, Body 5x4.4mm, Pitch 0.65mm, IPC Low Density)
pins: 1 SCLK (in) "Serial Clock, Logic Input. SCLK provides the serial clock for accessing data from the part. This clock input is also used as the clock source for the AD7904/AD7914/AD7924 conversion process.", 2 DIN (in) "Data In, Logic Input. Data to be written to the control register of the AD7904/AD7914/AD7924 is provided on this input and is clocked into the register on the falling edge of SCLK (see the Control Register section).", 3 ~{CS} (in) "Chip Select. Active low logic input. This input provides the dual function of initiating conversions on the AD7904/AD7914/AD7924 and frames the serial data transfer.", 4 AGND (power) "Analog Ground. Ground reference point for all analog circuitry on the AD7904/AD7914/AD7924. All analog input signals and any external reference signal should be referred to this AGND voltage. All AGND pins should be (See Datasheet)", 5 AVDD (power) "Analog Power Supply Input. The AVDD range for the AD7904/AD7914/AD7924 is from 2.7 V to 5.25 V. For the 0 V to 2 x REFIN range, AVDD should be from 4.75 V to 5.25 V.", 6 AVDD (power) "Analog Power Supply Input. The AVDD range for the AD7904/AD7914/AD7924 is from 2.7 V to 5.25 V. For the 0 V to 2 x REFIN range, AVDD should be from 4.75 V to 5.25 V.", 7 REFIN (in) "Reference Input for the AD7904/AD7914/AD7924. An external reference must be applied to this input. The voltage range for the external reference is 2.5 V +/- 1% for specified performance.", 8 AGND (power) "Analog Ground. Ground reference point for all analog circuitry on the AD7904/AD7914/AD7924. All analog input signals and any external reference signal should be referred to this AGND voltage. All AGND pins should be (See Datasheet)", 9 VIN3 (in) "Analog Input 0 through Analog Input 3. The four single-ended analog input channels are multiplexed into the on-chip track-and-hold. The analog input channel to be converted is selected using the address bits ADD1 and ADD0 of (See Datasheet)", 10 VIN2 (in) "Analog Input 0 through Analog Input 3. The four single-ended analog input channels are multiplexed into the on-chip track-and-hold. The analog input channel to be converted is selected using the address bits ADD1 and ADD0 of (See Datasheet)", 11 VIN1 (in) "Analog Input 0 through Analog Input 3. The four single-ended analog input channels are multiplexed into the on-chip track-and-hold. The analog input channel to be converted is selected using the address bits ADD1 and ADD0 of (See Datasheet)", 12 VIN0 (in) "Analog Input 0 through Analog Input 3. The four single-ended analog input channels are multiplexed into the on-chip track-and-hold. The analog input channel to be converted is selected using the address bits ADD1 and ADD0 of (See Datasheet)", 13 AGND (power) "Analog Ground. Ground reference point for all analog circuitry on the AD7904/AD7914/AD7924. All analog input signals and any external reference signal should be referred to this AGND voltage. All AGND pins should be (See Datasheet)", 14 DOUT (hiz) "Data Out, Logic Output. The conversion result from the AD7904/AD7914/AD7924 is provided on this output as a serial data stream. The bits are clocked out on the falling edge of the SCLK input. The data stream from the AD7904 (See Datasheet)", 15 VDRIVE (power) "Logic Power Supply Input. The voltage supplied at this pin determines the voltage at which the serial interface of the AD7904/AD7914/AD7924 operates.", 16 AGND (power) "Analog Ground. Ground reference point for all analog circuitry on the AD7904/AD7914/AD7924. All analog input signals and any external reference signal should be referred to this AGND voltage. All AGND pins should be (See Datasheet)"